# Altium footprint library Resistores_PCBLIB.PcbLib: 27 footprints (part 2 of 2)
Each footprint in its own frame and in the unit in brackets; x right, y up, seen from the top. Pads: shape width x height; smd on the part's side, far side on the other; paste and mask are expansions set on the pad; w line width, h text height; cw(c..) or ccw(c..) is an arc to the next point about the centre after c.
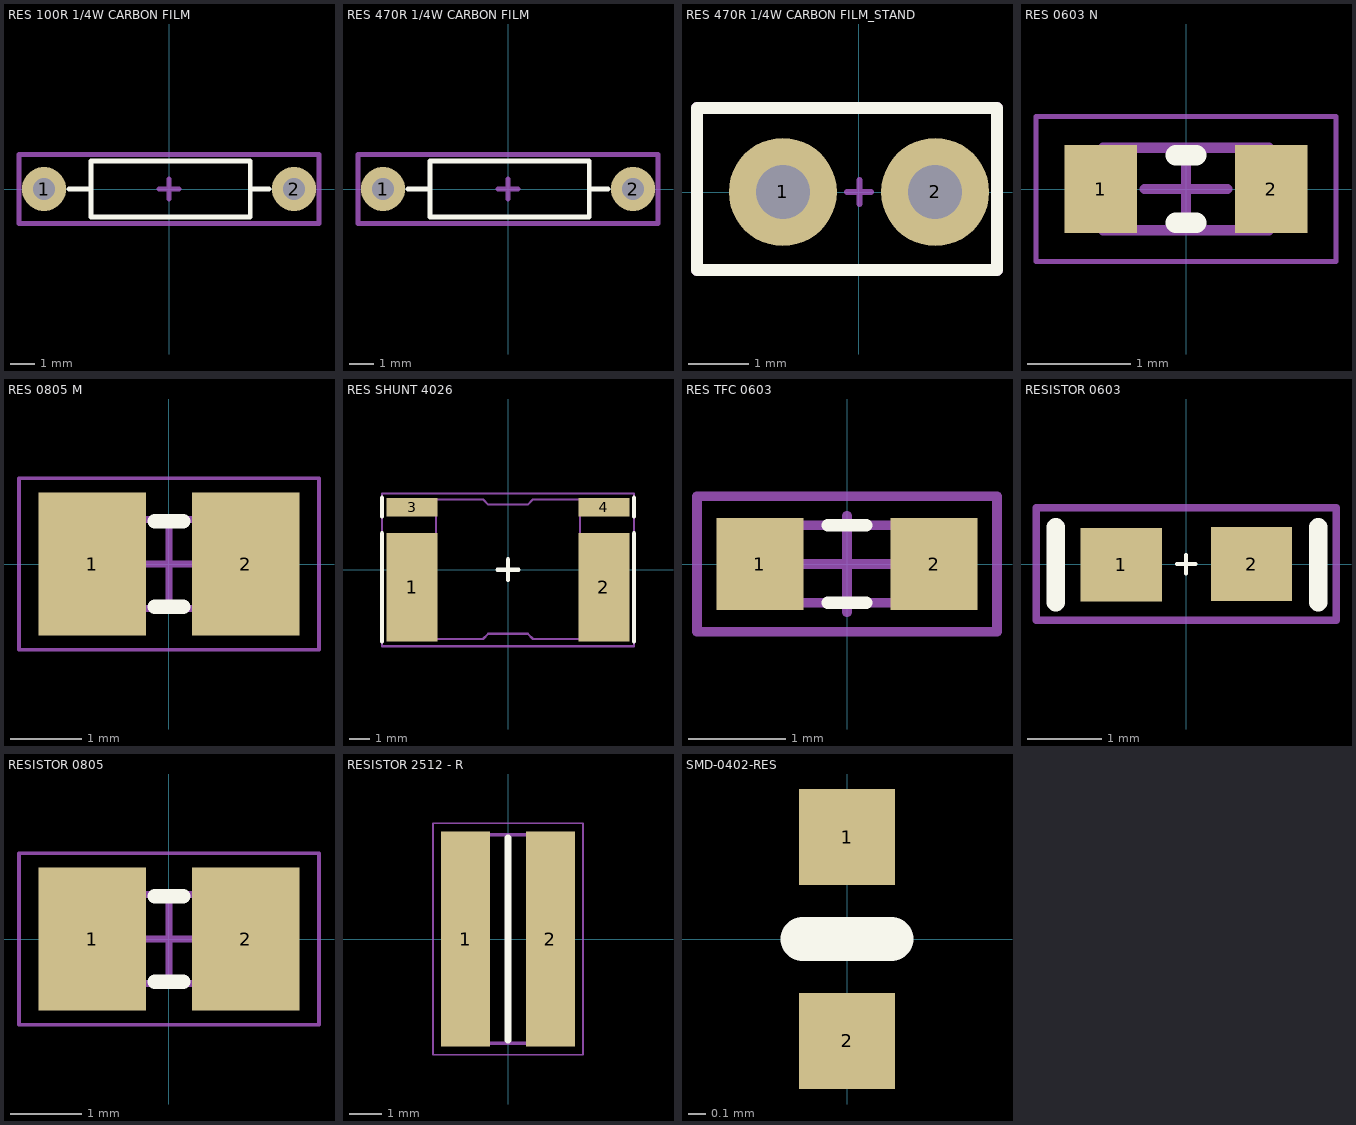
[diagram p1: the footprints below, top view; thin cyan lines are the x and y axes]

## RES 100R 1/4W CARBON FILM [mm]
pads (2):
  round 1.8 hole 0.9: 1(-5.08,0) 2(5.08,0)
Top Overlay:
  lines w0.2: -4.064,0 -3.175,0 ; 3.302,0 4.064,0 ; -3.175,-1.143 -3.175,1.143 3.302,1.143 3.302,-1.143 -3.175,-1.143
Mechanical 15:
  lines w0.2: -0.4,0 0.4,0 ; 0,-0.4 0,0.4 ; -6.096,-1.4 6.096,-1.4 6.096,1.4 -6.096,1.4 -6.096,-1.4
Mechanical 29:
  text "1" at -3.937,-1.016 h0.5
  text ".Designator" at -5.9,1.8 h0.5
3D body "RES_100_.25W_CARBON_FILM.STEP": height 2.77, standoff -2.52, extent -5.373,-1.27 5.574,1.27

## RES 470R 1/4W CARBON FILM [mm]
pads (2):
  round 1.8 hole 0.9: 1(-5.08,0) 2(5.08,0)
Top Overlay:
  lines w0.2: -4.064,0 -3.175,0 ; 3.302,0 4.064,0 ; -3.175,-1.143 -3.175,1.143 3.302,1.143 3.302,-1.143 -3.175,-1.143
Mechanical 15:
  lines w0.2: -0.4,0 0.4,0 ; 0,-0.4 0,0.4 ; -6.096,-1.4 6.096,-1.4 6.096,1.4 -6.096,1.4 -6.096,-1.4
Mechanical 29:
  text "1" at -3.937,-1.016 h0.5
  text ".Designator" at -5.9,1.8 h0.5
3D body "RES 470R .25W CARBON FILM.STEP": height 3.27, standoff -1.27, extent -5.473,-1.27 5.474,1.27

## RES 470R 1/4W CARBON FILM_STAND [mm]
pads (2):
  round 1.8 hole 0.9: 1(-1.27,0) 2(1.27,0)
Top Overlay:
  lines w0.2: -2.7,-1.3 -2.7,1.4 2.3,1.4 2.3,-1.3 -2.7,-1.3
Mechanical 15:
  lines w0.1: -0.2,0 0.2,0 ; 0.01,-0.2 0.01,0.2
  lines w0.2: -2.7,-1.3 2.3,-1.3 2.3,1.4 -2.7,1.4 -2.7,-1.3
Mechanical 29:
  text "1" at -2.4,-1 h0.5
  text ".Designator" at -2.4,1.8 h0.5
3D body "RES 470R .25W CARBON FILM_STAND.STEP": height 7.82, standoff -2.03, extent -2.562,-1.2 1.562,1.34

## RES 0603 N [mm] "Chip Resistor, 2-Leads, Body 1,60x0,80mm, IPC Medium Density"
height 0.45
pads (2):
  rect 0.7x0.85 smd: 1(-0.825,0) 2(0.825,0)
Top Overlay:
  lines w0.2: -0.1,-0.325 0.1,-0.325 ; -0.1,0.325 0.1,0.325
Mechanical 13:
  lines w0.1: -0.8,-0.4 0.8,-0.4 0.8,0.4 -0.8,0.4 -0.8,-0.4
Mechanical 15:
  lines w0.05: -1.45,-0.7 1.45,-0.7 1.45,0.7 -1.45,0.7 -1.45,-0.7
  lines w0.1: -0.4,0 0.4,0 ; 0,-0.4 0,0.4
Mechanical 29:
  text ".Designator" at 0,0 h1
3D body "RES 0603.STEP": height 0.4, standoff 0, extent -0.8,-0.4 0.8,0.4

## RES 0805 M [mm] "Chip Resistor, 2-Leads, Body 2,00x1,25mm, IPC Low Density"
height 0.6
pads (2):
  rect 1.5x2 smd: 1(-1.075,0) 2(1.075,0)
Top Overlay:
  lines w0.2: -0.2,-0.6 0.2,-0.6 ; -0.2,0.6 0.2,0.6
Mechanical 13:
  lines w0.1: -1,-0.625 1,-0.625 1,0.625 -1,0.625 -1,-0.625
Mechanical 15:
  lines w0.05: -2.1,-1.2 2.1,-1.2 2.1,1.2 -2.1,1.2 -2.1,-1.2
  lines w0.1: -0.5,0 0.5,0 ; 0,-0.5 0,0.5
3D body "RESC2012X06M.step": height 0.6, standoff 0, extent -1,-0.625 1,0.625

## RES SHUNT 4026 [mm] "RES SHUNT 4026"
pads (4):
  rect 2.44x5.2 smd: 1(-4.6,-0.842) 2(4.6,-0.842)
  rect 2.44x0.9 smd: 3(-4.6,3) 4(4.6,3)
Top Overlay:
  lines w0.2: -6.05,-3.45 -6.05,1.75 ; -6.05,2.55 -6.05,3.45 ; -0.5,0 0.5,0 ; 0,-0.5 0,0.5 ; 6.05,-3.45 6.05,1.75 ; 6.05,2.55 6.05,3.45
Mechanical 13:
  lines w0.1: -3.45,-3.325 -3.45,3.375 ; -3.45,1.675 -5.05,1.675 -5.05,-3.325 -1.2,-3.325 -0.95,-3.075 0.95,-3.075 1.2,-3.325 ; -3.45,2.675 -5.05,2.675 ; 3.45,-3.325 3.45,3.375 ; 3.45,1.675 5.05,1.675 ; 3.45,2.675 5.05,2.675 5.05,3.375 ; -5.05,2.675 -5.05,2.675 ; -5.05,2.675 -5.05,3.375 -1.2,3.375 ; -1.2,3.375 -0.95,3.125 0.95,3.125 1.2,3.375 ; -1.2,3.375 -1.2,3.375 ; -1.2,3.375 -1.2,3.375 ; 1.2,-3.325 1.2,-3.325 ; 1.2,-3.325 5.05,-3.325 5.05,1.675 ; 1.2,3.375 1.2,3.375 ; 1.2,3.375 5.05,3.375 ; 5.05,1.675 5.05,1.675 ; 5.05,3.375 5.05,3.375
Mechanical 15:
  lines w0.1: -0.5,0 0.5,0 ; 0,-0.5 0,0.5 ; -6.05,-3.675 -6.05,3.65 6.05,3.65 6.05,-3.675 -6.05,-3.675
Mechanical 29:
  text ".Designator" at -5.35,4.05 h0.5
3D body "SHUNT4026.STEP": height 2.8, standoff 0, extent -5.05,-3.325 5.05,3.375

## RES TFC 0603 [mm] "RES TFC 0603"
pads (2):
  rect 0.9x0.95 smd: 1(-0.9,0) 2(0.9,0)
Top Overlay:
  lines w0.127: -0.2,-0.4 0.2,-0.4 ; -0.2,0.4 0.2,0.4
Mechanical 13:
  lines w0.1: -0.8,0.4 -0.8,-0.4 ; -0.775,0.4 0.8,0.4 0.8,-0.4 -0.8,-0.4 ; -0.8,-0.4 -0.8,-0.4
Mechanical 15:
  lines w0.1: -0.5,0 0.5,0 ; 0,-0.5 0,0.5 ; -1.55,-0.7 -1.55,0.7 1.55,0.7 1.55,-0.7 -1.55,-0.7
Mechanical 29:
  text ".Designator" at -1.4,1.05 h0.5
3D body "R0603.STEP": height 0.45, standoff 0, extent -0.8,-0.4 0.8,0.4

## RESISTOR 0603 [mm] "RES 5% 0603"
height 0.025
pads (2):
  rect 1.1x1 smd: 1(-0.877,-0.011) 2(0.889,0)
Top Overlay:
  lines w0.051: -0.127,0 0.127,0 ; 0,-0.127 0,0.127
  lines w0.254: -1.766,-0.519 -1.766,0.497 ; 1.79,-0.519 1.79,0.497
Mechanical 15:
  lines w0.102: -2.032,-0.762 2.032,-0.762 2.032,0.762 -2.032,0.762 -2.032,-0.762
3D body "SW3dPS-0603 SMD Resistor.STEP": height 0.3, standoff 0, extent -0.8,-0.4 0.8,0.4

## RESISTOR 0805 [mm] "Chip Resistor, 2-Leads, Body 2,00x1,25mm, IPC Low Density"
height 0.6
pads (2):
  rect 1.5x2 smd: 1(-1.075,0) 2(1.075,0)
Top Overlay:
  lines w0.2: -0.2,-0.6 0.2,-0.6 ; -0.2,0.6 0.2,0.6
Mechanical 13:
  lines w0.1: -1,-0.625 1,-0.625 1,0.625 -1,0.625 -1,-0.625
Mechanical 15:
  lines w0.05: -2.1,-1.2 2.1,-1.2 2.1,1.2 -2.1,1.2 -2.1,-1.2
  lines w0.1: -0.5,0 0.5,0 ; 0,-0.5 0,0.5
3D body "RESC2012X06M.step": height 0.6, standoff 0, extent -1,-0.625 1,0.625

## RESISTOR 2512 - R [mm]
pads (2):
  rect 1.5x6.6 smd: 1(-1.3,0) 2(1.3,0)
Top Overlay:
  lines w0.2: 0,-3.1 0,3.1
Mechanical 13:
  lines w0.1: -1.6,-3.2 1.6,-3.2 1.6,3.2 -1.6,3.2 -1.6,-3.2
Mechanical 15:
  lines w0.05: -2.3,-3.55 2.3,-3.55 2.3,3.55 -2.3,3.55 -2.3,-3.55
3D body "PRL3264-R004-J-T1.stp": height 0.6, standoff 0, extent -1.6,-3.2 1.6,3.2

## SMD-0402-RES [mm]
pads (2):
  rect 0.55x0.55 smd: 1(0,0.584) 2(0,-0.584)
Top Overlay:
  lines w0.254: -0.254,0 0.254,0
3D body "resistor0402.step": height 0.41, standoff 0, extent -0.275,-0.575 0.275,0.575